# EAGLE library part POT_ATT_HR (library wheat)
POT, NOBLE, OR STEP ATTENUATOR
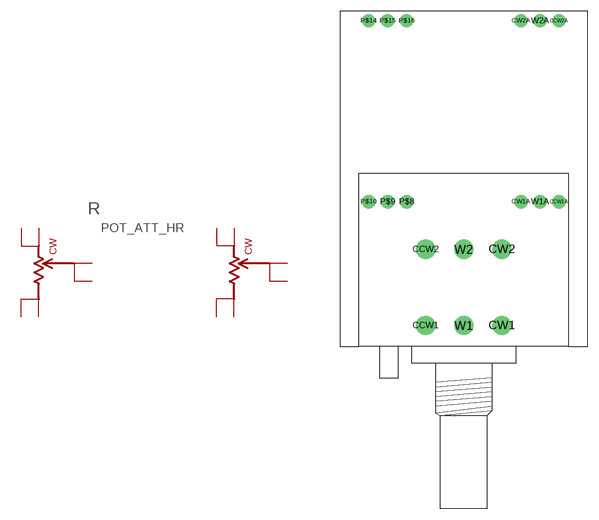
[diagram p76: symbol with the pads of POT_ATT_HR; footprint POT_ATT_HR]

Designator prefix R

## POT_ATT_HR  [POT_ATT_HR]
CCW1  CCW1  pas
CCW1A  CCW1A  pas
CCW2  CCW2  pas
CCW2A  CCW2A  pas
CW1  CW1  pas
CW1A  CW1A  pas
CW2  CW2  pas
CW2A  CW2A  pas
W1  W1  pas
W1A  W1A  pas
W2  W2  pas
W2A  W2A  pas

## Footprint POT_ATT_HR (pad centres in mm)
VOLUME POT, ALPS RK27 OR STEP ATTENUATOR
drill 1.27 pad 2.54: CCW1 -5.08,5; CCW2 -5.08,15.16; CW1 5.08,5; CW2 5.08,15.16; W1 0,5; W2 0,15.16
drill 0.813 pad 1.778: CCW1A 12.7,21.51; CCW2A 12.7,45.64; CW1A 7.62,21.51; CW2A 7.62,45.64; P$8 -7.62,21.51; P$9 -10.16,21.51; P$10 -12.7,21.51; P$14 -12.7,45.64; P$15 -10.16,45.64; P$16 -7.62,45.64; W1A 10.16,21.51; W2A 10.16,45.64